# EAGLE library part DD-12832YW-1A (library keves)
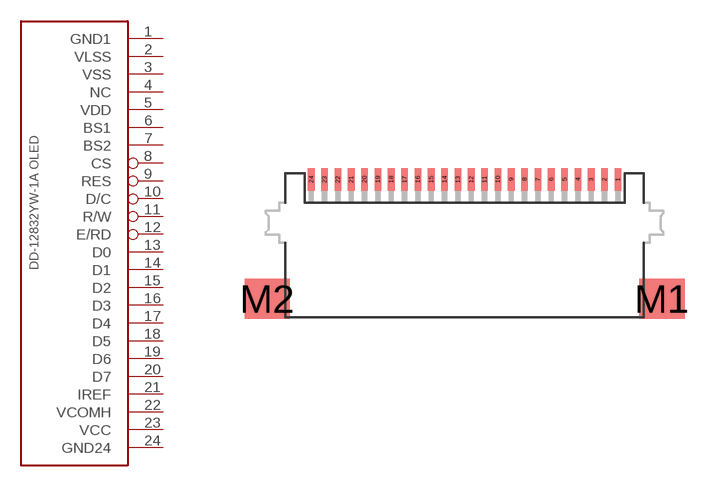
[diagram p3: symbol with the pads of XF2M-2415-1A; footprint XF2M-2415-1A]

Designator prefix -

## DD-12832YW-1A  [XF2M-2415-1A]
1  GND1
2  VLSS
3  VSS
4  NC
5  VDD
6  BS1
7  BS2
8  CS
9  RES
10  D/C
11  R/W
12  E/RD
13  D0
14  D1
15  D2
16  D3
17  D4
18  D5
19  D6
20  D7
21  IREF
22  VCOMH
23  VCC
24  GND24

## Footprint XF2M-2415-1A (pad centres in mm)
smd 0.25 x 0.85: 1 5.75,4.48; 2 5.25,4.48; 3 4.75,4.48; 4 4.25,4.48; 5 3.75,4.48; 6 3.25,4.48; 7 2.75,4.48; 8 2.25,4.48; 9 1.75,4.48; 10 1.25,4.48; 11 0.75,4.48; 12 0.25,4.48; 13 -0.25,4.48; 14 -0.75,4.48; 15 -1.25,4.48; 16 -1.75,4.48; 17 -2.25,4.48; 18 -2.75,4.48; 19 -3.25,4.48; 20 -3.75,4.48; 21 -4.25,4.48; 22 -4.75,4.48; 23 -5.25,4.48; 24 -5.75,4.48
smd 1.7 x 1.5: M1 7.4,0; M2 -7.4,0